# Altium schematic symbol library bcu_down.SCHLIB: 24 symbols
Pins are listed as number, name and electrical type; pins without a type are passive.

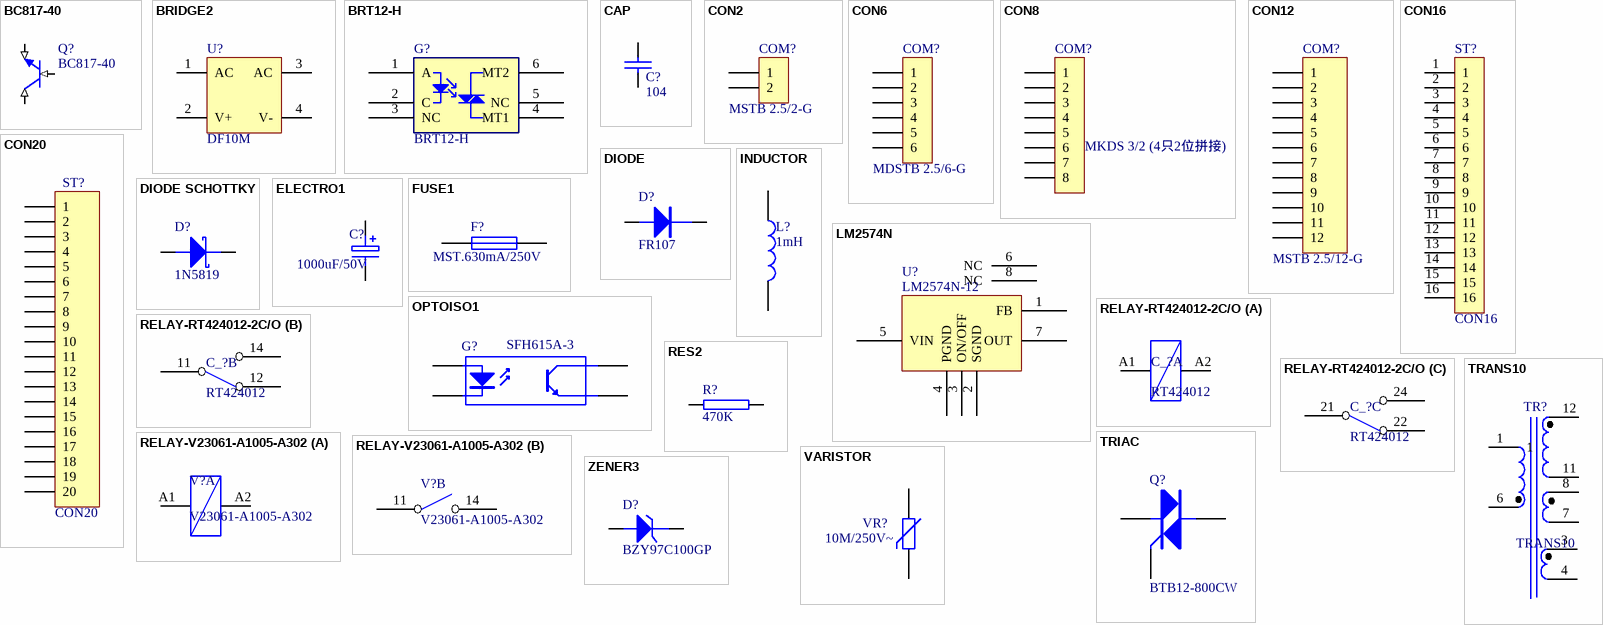
[diagram p0: symbols BC817-40 to ZENER3]

## BC817-40
designator Q?
footprint Q
pins: 1 B (in), 2 E (in), 3 C (in)
2 alternate drawings of the same symbol

## BRIDGE2
designator U?, comment DF10M
Diode Bridge
footprint BRIDGE
footprint BRIGDE_RECTIFIER
pins: 1 AC, 2 V+, 3 AC, 4 V-
2 alternate drawings of the same symbol

## BRT12-H
designator G?
footprint DIP-6
pins: 1 A (power), 2 C (power), 3 NC (power), 4 MT1 (power), 5 NC (power), 6 MT2 (power)
2 alternate drawings of the same symbol

## CAP
designator C?, comment 104
Capacitor
footprint 0805
footprint 0805-b
footprint RAD0.3
footprint 1206
pins: 1, 2
2 alternate drawings of the same symbol

## CON2
designator COM?, comment MSTB 2.5/2-G
Connector
footprint MSTB 2.5/2-G
pins: 1, 2
2 alternate drawings of the same symbol

## CON6
designator COM?, comment MDSTB 2.5/6-G
Connector
footprint MDSTB 2.5/6-G
pins: 1, 2, 3, 4, 5, 6
2 alternate drawings of the same symbol

## CON8
designator COM?, comment MKDS 3/2 (4只2位拼接)
Connector
footprint MKDS 3/8
pins: 1, 2, 3, 4, 5, 6, 7, 8
2 alternate drawings of the same symbol

## CON12
designator COM?, comment MSTB 2.5/12-G
Connector
footprint MSTB 2.5/12-G
pins: 1, 2, 3, 4, 5, 6, 7, 8, 9, 10, 11, 12
2 alternate drawings of the same symbol

## CON16
designator ST?
footprint IDC16-A
footprint IDC16-A
footprint IDC16-B
pins: 1, 2, 3, 4, 5, 6, 7, 8, 9, 10, 11, 12, 13, 14, 15, 16

## CON20
designator ST?
Connector
footprint STOCKO20V
pins: 1, 2, 3, 4, 5, 6, 7, 8, 9, 10, 11, 12, 13, 14, 15, 16, 17, 18, 19, 20
2 alternate drawings of the same symbol

## DIODE
designator D?, comment FR107
Diode
footprint D
pins: 1 A, 2 K
2 alternate drawings of the same symbol

## DIODE SCHOTTKY
designator D?, comment 1N5819
Schottky Diode
footprint 1210-B
pins: 1 A, 2 K
2 alternate drawings of the same symbol

## ELECTRO1
designator C?, comment 1000uF/50V
Electrolytic Capacitor
footprint RB.3/.6 - 16×25
pins: 1, 2
2 alternate drawings of the same symbol

## FUSE1
designator F?, comment MST.630mA/250V
Fuse
footprint RAD0.2
pins: 1, 2
2 alternate drawings of the same symbol

## INDUCTOR
designator L?, comment 1mH
footprint AXIAL0.5-B
pins: 1, 2
2 alternate drawings of the same symbol

## LM2574N
designator U?, comment LM2574N-12
footprint DIP-8
pins: 1 FB (power), 2 SGND (power), 3 ON/OFF (power), 4 PGND (power), 5 VIN (power), 6 NC (power) hidden to NC, 7 OUT (power), 8 NC (power) hidden to NC
2 alternate drawings of the same symbol

## OPTOISO1
designator G?, comment SFH615A-3
Optoisolator
footprint DIP-4
pins: 1 A, 2 K, 3 E, 4 C
2 alternate drawings of the same symbol

## RELAY-RT424012-2C/O
designator C_?, comment RT424012
footprint RT424012
part A pins: A1, A2
part B pins: 11, 12, 14
part C pins: 21, 22, 24
2 alternate drawings of the same symbol

## RELAY-V23061-A1005-A302
designator V?, comment V23061-A1005-A302
footprint V23061-A1005-A302
part A pins: A1, A2
part B pins: 11, 14
2 alternate drawings of the same symbol

## RES2
designator R?, comment 470K
footprint 0805
footprint 1206
footprint AXIAL0.3
footprint 1206
pins: 1, 2
2 alternate drawings of the same symbol

## TRANS10
designator TR?
footprint T15-F131
pins: 1, 3, 4, 6, 7, 8, 11, 12
2 alternate drawings of the same symbol

## TRIAC
designator Q?, comment BTB12-800CW
footprint TO-220F
pins: 1 MT1, 2 MT2, 3 G
2 alternate drawings of the same symbol

## VARISTOR
designator VR?, comment 10M/250V~
footprint RAD0.3
pins: 1, 2
2 alternate drawings of the same symbol

## ZENER3
designator D?, comment BZY97C100GP
Zener Diode
footprint 1812-B
pins: 1 A, 2 K
2 alternate drawings of the same symbol